# EAGLE library part TLC59116-QFN (library iridia)
16-CHANNEL FAST-MODE PLUS I2C BUS LED DRIVER Digi-Key Part Number 296-23354-1-ND Manufacturer Part Number TLC59116IPWR (TLC59116F)
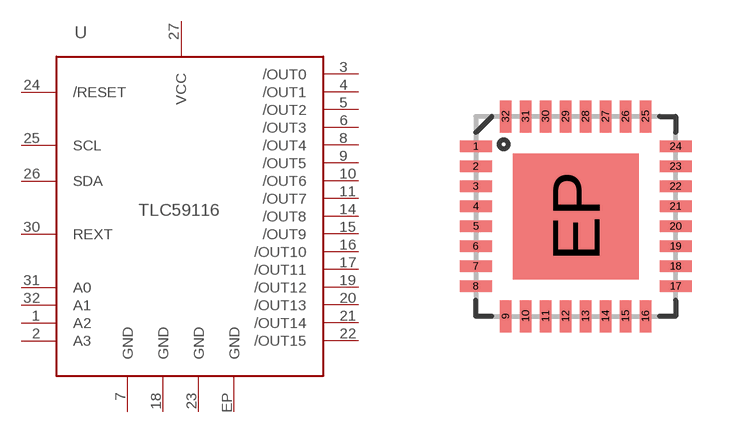
[diagram p4: symbol with the pads of QFN-32; footprint QFN-32]

Designator prefix -

## TLC59116-QFNQFN  [QFN-32]
1  A2
2  A3
3  /OUT0
4  /OUT1
5  /OUT2
6  /OUT3
7  GND
8  /OUT4
9  /OUT5
10  /OUT6
11  /OUT7
14  /OUT8
15  /OUT9
16  /OUT10
17  /OUT11
18  GND
19  /OUT12
20  /OUT13
21  /OUT14
22  /OUT15
23  GND
24  /RESET
25  SCL
26  SDA
27  VCC
30  REXT
31  A0
32  A1
EP  GND

## Footprint QFN-32 (pad centres in mm)
QFN 32-Pin package w/ Thermal Pad ***Unproven*** Applicable Parts: TLC5940
smd 0.8 x 0.285: 1 -2.5,1.75; 2 -2.5,1.25; 3 -2.5,0.75; 4 -2.5,0.25; 5 -2.5,-0.25; 6 -2.5,-0.75; 7 -2.5,-1.25; 8 -2.5,-1.75; 17 2.5,-1.75; 18 2.5,-1.25; 19 2.5,-0.75; 20 2.5,-0.25; 21 2.5,0.25; 22 2.5,0.75; 23 2.5,1.25; 24 2.5,1.75
smd 0.285 x 0.8: 9 -1.75,-2.5; 10 -1.25,-2.5; 11 -0.75,-2.5; 12 -0.25,-2.5; 13 0.25,-2.5; 14 0.75,-2.5; 15 1.25,-2.5; 16 1.75,-2.5; 25 1.75,2.5; 26 1.25,2.5; 27 0.75,2.5; 28 0.25,2.5; 29 -0.25,2.5; 30 -0.75,2.5; 31 -1.25,2.5; 32 -1.75,2.5
smd 3.15 x 3.15: EP 0,0